# Altium footprint library PowerSO.PcbLib: 3 footprints
Each footprint in its own frame and in the unit in brackets; x right, y up, seen from the top. Pads: shape width x height; smd on the part's side, far side on the other; paste and mask are expansions set on the pad; w line width, h text height; cw(c..) or ccw(c..) is an arc to the next point about the centre after c.
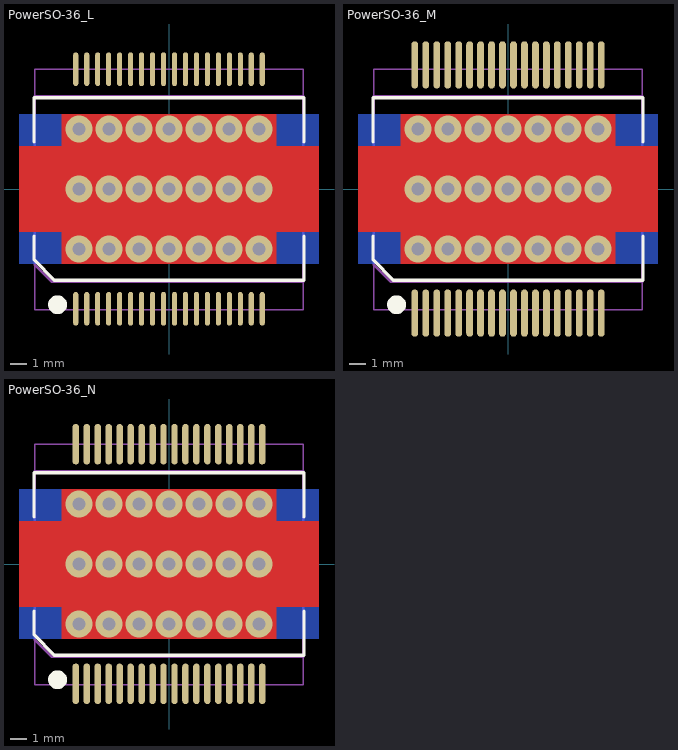
[diagram p0: the footprints below, top view; thin cyan lines are the x and y axes]

## PowerSO-36_L [mm] "15.9mm*11mm*3.6mm(长*宽*高）"
pads (36):
  oval 0.3x2 smd: 1(-5.525,-7.1) 2(-4.875,-7.1) 3(-4.225,-7.1) 4(-3.575,-7.1) 5(-2.925,-7.1) 6(-2.275,-7.1) 7(-1.625,-7.1) 8(-0.975,-7.1) 9(-0.325,-7.1) 10(0.325,-7.1) 11(0.975,-7.1) 12(1.625,-7.1) 13(2.275,-7.1) 14(2.925,-7.1) 15(3.575,-7.1) 16(4.225,-7.1) 17(4.875,-7.1) 18(5.525,-7.1) 19(5.525,7.1) 20(4.875,7.1) 21(4.225,7.1) 22(3.575,7.1) 23(2.925,7.1) 24(2.275,7.1) 25(1.625,7.1) 26(0.975,7.1) 27(0.325,7.1) 28(-0.325,7.1) 29(-0.975,7.1) 30(-1.625,7.1) 31(-2.275,7.1) 32(-2.925,7.1) 33(-3.575,7.1) 34(-4.225,7.1) 35(-4.875,7.1) 36(-5.525,7.1)
via 0,-3.556 diameter 1.6 hole 0.8
via -1.778,-3.556 diameter 1.6 hole 0.8
via -3.556,-3.556 diameter 1.6 hole 0.8
via -5.334,-3.556 diameter 1.6 hole 0.8
via 1.778,-3.556 diameter 1.6 hole 0.8
via 3.556,-3.556 diameter 1.6 hole 0.8
via 5.334,-3.556 diameter 1.6 hole 0.8
via -5.334,3.556 diameter 1.6 hole 0.8
via -3.556,3.556 diameter 1.6 hole 0.8
via -1.778,3.556 diameter 1.6 hole 0.8
via 5.334,3.556 diameter 1.6 hole 0.8
via 3.556,3.556 diameter 1.6 hole 0.8
via 1.778,3.556 diameter 1.6 hole 0.8
via 0,3.556 diameter 1.6 hole 0.8
via 0,0 diameter 1.6 hole 0.8
via 1.778,0 diameter 1.6 hole 0.8
via 3.556,0 diameter 1.6 hole 0.8
via 5.334,0 diameter 1.6 hole 0.8
via -1.778,0 diameter 1.6 hole 0.8
via -3.556,0 diameter 1.6 hole 0.8
via -5.334,0 diameter 1.6 hole 0.8
Top Layer:
  region: -8.89,-2.54 -8.89,2.54 -6.35,2.54 -6.35,4.445 6.35,4.445 6.35,2.54 8.89,2.54 8.89,-2.54 6.35,-2.54 6.35,-4.445 -6.35,-4.445 -6.35,-2.54
Bottom Layer:
  region: -8.89,-4.445 -8.89,4.445 8.89,4.445 8.89,-4.445
Top Overlay:
  circle w0.8: c-6.604,-6.858 r0.155
  lines w0.2: -8,-4.192 -6.792,-5.4 8,-5.4 ; -8,5.4 8,5.4
  lines w0.203: -8.001,-2.794 -8,-2.795 -8,-4.192 ; -8.001,2.794 -8,2.795 -8,5.4 ; 8,-5.4 8,-2.795 ; 8,5.4 8,2.795 8.001,2.794
Top Paste:
  region: 8.636,2.286 6.985,2.286 6.985,1.27 8.636,1.27
  region: 8.636,0.508 6.985,0.508 6.985,-0.508 8.636,-0.508
  region: 8.636,-1.143 6.985,-1.143 6.985,-2.159 8.636,-2.159
  region: -8.636,1.143 -6.985,1.143 -6.985,2.159 -8.636,2.159
  region: -8.636,-0.508 -6.985,-0.508 -6.985,0.508 -8.636,0.508
  region: -8.636,-2.286 -6.985,-2.286 -6.985,-1.27 -8.636,-1.27
  region: 5.207,-2.286 6.477,-2.286 6.477,-1.016 5.207,-1.016
  region: 3.175,-2.286 4.445,-2.286 4.445,-1.016 3.175,-1.016
  region: 1.27,-2.286 2.54,-2.286 2.54,-1.016 1.27,-1.016
  region: -6.477,-2.286 -5.207,-2.286 -5.207,-1.016 -6.477,-1.016
  region: -4.445,-2.286 -3.175,-2.286 -3.175,-1.016 -4.445,-1.016
  region: -2.54,-2.286 -1.27,-2.286 -1.27,-1.016 -2.54,-1.016
  region: -0.635,-2.286 0.635,-2.286 0.635,-1.016 -0.635,-1.016
  region: -5.207,2.286 -6.477,2.286 -6.477,1.016 -5.207,1.016
  region: -3.175,2.286 -4.445,2.286 -4.445,1.016 -3.175,1.016
  region: -1.27,2.286 -2.54,2.286 -2.54,1.016 -1.27,1.016
  region: 6.477,2.286 5.207,2.286 5.207,1.016 6.477,1.016
  region: 4.445,2.286 3.175,2.286 3.175,1.016 4.445,1.016
  region: 2.54,2.286 1.27,2.286 1.27,1.016 2.54,1.016
  region: 0.635,2.286 -0.635,2.286 -0.635,1.016 0.635,1.016
Top Solder:
  region: -8.89,-2.54 -8.89,2.54 -6.35,2.54 -6.35,4.445 6.35,4.445 6.35,2.54 8.89,2.54 8.89,-2.54 6.35,-2.54 6.35,-4.445 -6.35,-4.445 -6.35,-2.54
Bottom Solder:
  region: -8.89,-4.445 -8.89,4.445 8.89,4.445 8.89,-4.445
Mechanical 13:
  lines w0.15: -7.95,-4.496 -7.95,5.5 7.95,5.5 7.95,-5.5 -6.946,-5.5 -7.95,-4.496
Mechanical 15:
  circle w0.05: c0,0 r0.35
  lines w0.05: -0.5,0 0.5,0 ; 0,-0.5 0,0.5
  lines w0.1: -7.95,-7.15 -7.95,7.1 7.95,7.1 7.95,-7.15 -7.95,-7.15
3D body "PowerSO-36.STEP": height 3.84, standoff -0.01, extent -7.95,-7.117 7.95,7.118

## PowerSO-36_M [mm] "15.9mm*11mm*3.6mm(长*宽*高）"
pads (36):
  oval 0.4x2.8 smd: 1(-5.525,-7.354) 2(-4.875,-7.354) 3(-4.225,-7.354) 4(-3.575,-7.354) 5(-2.925,-7.354) 6(-2.275,-7.354) 7(-1.625,-7.354) 8(-0.975,-7.354) 9(-0.325,-7.354) 10(0.325,-7.354) 11(0.975,-7.354) 12(1.625,-7.354) 13(2.275,-7.354) 14(2.925,-7.354) 15(3.575,-7.354) 16(4.225,-7.354) 17(4.875,-7.354) 18(5.525,-7.354) 19(5.525,7.354) 20(4.875,7.354) 21(4.225,7.354) 22(3.575,7.354) 23(2.925,7.354) 24(2.275,7.354) 25(1.625,7.354) 26(0.975,7.354) 27(0.325,7.354) 28(-0.325,7.354) 29(-0.975,7.354) 30(-1.625,7.354) 31(-2.275,7.354) 32(-2.925,7.354) 33(-3.575,7.354) 34(-4.225,7.354) 35(-4.875,7.354) 36(-5.525,7.354)
via 0,-3.556 diameter 1.6 hole 0.8
via -1.778,-3.556 diameter 1.6 hole 0.8
via -3.556,-3.556 diameter 1.6 hole 0.8
via -5.334,-3.556 diameter 1.6 hole 0.8
via 1.778,-3.556 diameter 1.6 hole 0.8
via 3.556,-3.556 diameter 1.6 hole 0.8
via 5.334,-3.556 diameter 1.6 hole 0.8
via -5.334,3.556 diameter 1.6 hole 0.8
via -3.556,3.556 diameter 1.6 hole 0.8
via -1.778,3.556 diameter 1.6 hole 0.8
via 5.334,3.556 diameter 1.6 hole 0.8
via 3.556,3.556 diameter 1.6 hole 0.8
via 1.778,3.556 diameter 1.6 hole 0.8
via 0,3.556 diameter 1.6 hole 0.8
via 0,0 diameter 1.6 hole 0.8
via 1.778,0 diameter 1.6 hole 0.8
via 3.556,0 diameter 1.6 hole 0.8
via 5.334,0 diameter 1.6 hole 0.8
via -1.778,0 diameter 1.6 hole 0.8
via -3.556,0 diameter 1.6 hole 0.8
via -5.334,0 diameter 1.6 hole 0.8
Top Layer:
  region: -8.89,-2.54 -8.89,2.54 -6.35,2.54 -6.35,4.445 6.35,4.445 6.35,2.54 8.89,2.54 8.89,-2.54 6.35,-2.54 6.35,-4.445 -6.35,-4.445 -6.35,-2.54
Bottom Layer:
  region: -8.89,-4.445 -8.89,4.445 8.89,4.445 8.89,-4.445
Top Overlay:
  circle w0.8: c-6.604,-6.858 r0.155
  lines w0.2: -8,-4.192 -6.792,-5.4 8,-5.4 ; -8,5.4 8,5.4
  lines w0.203: -8.001,-2.794 -8,-2.795 -8,-4.192 ; -8.001,2.794 -8,2.795 -8,5.4 ; 8,-5.4 8,-2.795 ; 8,5.4 8,2.795 8.001,2.794
Top Paste:
  region: 8.636,2.286 6.985,2.286 6.985,1.27 8.636,1.27
  region: 8.636,0.508 6.985,0.508 6.985,-0.508 8.636,-0.508
  region: 8.636,-1.143 6.985,-1.143 6.985,-2.159 8.636,-2.159
  region: -8.636,1.143 -6.985,1.143 -6.985,2.159 -8.636,2.159
  region: -8.636,-0.508 -6.985,-0.508 -6.985,0.508 -8.636,0.508
  region: -8.636,-2.286 -6.985,-2.286 -6.985,-1.27 -8.636,-1.27
  region: 5.207,-2.286 6.477,-2.286 6.477,-1.016 5.207,-1.016
  region: 3.175,-2.286 4.445,-2.286 4.445,-1.016 3.175,-1.016
  region: 1.27,-2.286 2.54,-2.286 2.54,-1.016 1.27,-1.016
  region: -6.477,-2.286 -5.207,-2.286 -5.207,-1.016 -6.477,-1.016
  region: -4.445,-2.286 -3.175,-2.286 -3.175,-1.016 -4.445,-1.016
  region: -2.54,-2.286 -1.27,-2.286 -1.27,-1.016 -2.54,-1.016
  region: -0.635,-2.286 0.635,-2.286 0.635,-1.016 -0.635,-1.016
  region: -5.207,2.286 -6.477,2.286 -6.477,1.016 -5.207,1.016
  region: -3.175,2.286 -4.445,2.286 -4.445,1.016 -3.175,1.016
  region: -1.27,2.286 -2.54,2.286 -2.54,1.016 -1.27,1.016
  region: 6.477,2.286 5.207,2.286 5.207,1.016 6.477,1.016
  region: 4.445,2.286 3.175,2.286 3.175,1.016 4.445,1.016
  region: 2.54,2.286 1.27,2.286 1.27,1.016 2.54,1.016
  region: 0.635,2.286 -0.635,2.286 -0.635,1.016 0.635,1.016
Top Solder:
  region: -8.89,-2.54 -8.89,2.54 -6.35,2.54 -6.35,4.445 6.35,4.445 6.35,2.54 8.89,2.54 8.89,-2.54 6.35,-2.54 6.35,-4.445 -6.35,-4.445 -6.35,-2.54
Bottom Solder:
  region: -8.89,-4.445 -8.89,4.445 8.89,4.445 8.89,-4.445
Mechanical 13:
  lines w0.15: -7.95,-4.496 -7.95,5.5 7.95,5.5 7.95,-5.5 -6.946,-5.5 -7.95,-4.496
Mechanical 15:
  circle w0.05: c0,0 r0.35
  lines w0.05: -0.5,0 0.5,0 ; 0,-0.5 0,0.5
  lines w0.1: -7.95,-7.15 -7.95,7.1 7.95,7.1 7.95,-7.15 -7.95,-7.15
3D body "PowerSO-36.STEP": height 3.84, standoff -0.01, extent -7.95,-7.117 7.95,7.118

## PowerSO-36_N [mm] "15.9mm*11mm*3.6mm(长*宽*高）"
pads (36):
  oval 0.38x2.4 smd: 1(-5.525,-7.1) 2(-4.875,-7.1) 3(-4.225,-7.1) 4(-3.575,-7.1) 5(-2.925,-7.1) 6(-2.275,-7.1) 7(-1.625,-7.1) 8(-0.975,-7.1) 9(-0.325,-7.1) 10(0.325,-7.1) 11(0.975,-7.1) 12(1.625,-7.1) 13(2.275,-7.1) 14(2.925,-7.1) 15(3.575,-7.1) 16(4.225,-7.1) 17(4.875,-7.1) 18(5.525,-7.1) 19(5.525,7.1) 20(4.875,7.1) 21(4.225,7.1) 22(3.575,7.1) 23(2.925,7.1) 24(2.275,7.1) 25(1.625,7.1) 26(0.975,7.1) 27(0.325,7.1) 28(-0.325,7.1) 29(-0.975,7.1) 30(-1.625,7.1) 31(-2.275,7.1) 32(-2.925,7.1) 33(-3.575,7.1) 34(-4.225,7.1) 35(-4.875,7.1) 36(-5.525,7.1)
via 0,-3.556 diameter 1.6 hole 0.8
via -1.778,-3.556 diameter 1.6 hole 0.8
via -3.556,-3.556 diameter 1.6 hole 0.8
via -5.334,-3.556 diameter 1.6 hole 0.8
via 1.778,-3.556 diameter 1.6 hole 0.8
via 3.556,-3.556 diameter 1.6 hole 0.8
via 5.334,-3.556 diameter 1.6 hole 0.8
via -5.334,3.556 diameter 1.6 hole 0.8
via -3.556,3.556 diameter 1.6 hole 0.8
via -1.778,3.556 diameter 1.6 hole 0.8
via 5.334,3.556 diameter 1.6 hole 0.8
via 3.556,3.556 diameter 1.6 hole 0.8
via 1.778,3.556 diameter 1.6 hole 0.8
via 0,3.556 diameter 1.6 hole 0.8
via 0,0 diameter 1.6 hole 0.8
via 1.778,0 diameter 1.6 hole 0.8
via 3.556,0 diameter 1.6 hole 0.8
via 5.334,0 diameter 1.6 hole 0.8
via -1.778,0 diameter 1.6 hole 0.8
via -3.556,0 diameter 1.6 hole 0.8
via -5.334,0 diameter 1.6 hole 0.8
Top Layer:
  region: -8.89,-2.54 -8.89,2.54 -6.35,2.54 -6.35,4.445 6.35,4.445 6.35,2.54 8.89,2.54 8.89,-2.54 6.35,-2.54 6.35,-4.445 -6.35,-4.445 -6.35,-2.54
Bottom Layer:
  region: -8.89,-4.445 -8.89,4.445 8.89,4.445 8.89,-4.445
Top Overlay:
  circle w0.8: c-6.604,-6.858 r0.155
  lines w0.2: -8,-4.192 -6.792,-5.4 8,-5.4 ; -8,5.4 8,5.4
  lines w0.203: -8.001,-2.794 -8,-2.795 -8,-4.192 ; -8.001,2.794 -8,2.795 -8,5.4 ; 8,-5.4 8,-2.795 ; 8,5.4 8,2.795 8.001,2.794
Top Paste:
  region: 8.636,2.286 6.985,2.286 6.985,1.27 8.636,1.27
  region: 8.636,0.508 6.985,0.508 6.985,-0.508 8.636,-0.508
  region: 8.636,-1.143 6.985,-1.143 6.985,-2.159 8.636,-2.159
  region: -8.636,1.143 -6.985,1.143 -6.985,2.159 -8.636,2.159
  region: -8.636,-0.508 -6.985,-0.508 -6.985,0.508 -8.636,0.508
  region: -8.636,-2.286 -6.985,-2.286 -6.985,-1.27 -8.636,-1.27
  region: 5.207,-2.286 6.477,-2.286 6.477,-1.016 5.207,-1.016
  region: 3.175,-2.286 4.445,-2.286 4.445,-1.016 3.175,-1.016
  region: 1.27,-2.286 2.54,-2.286 2.54,-1.016 1.27,-1.016
  region: -6.477,-2.286 -5.207,-2.286 -5.207,-1.016 -6.477,-1.016
  region: -4.445,-2.286 -3.175,-2.286 -3.175,-1.016 -4.445,-1.016
  region: -2.54,-2.286 -1.27,-2.286 -1.27,-1.016 -2.54,-1.016
  region: -0.635,-2.286 0.635,-2.286 0.635,-1.016 -0.635,-1.016
  region: -5.207,2.286 -6.477,2.286 -6.477,1.016 -5.207,1.016
  region: -3.175,2.286 -4.445,2.286 -4.445,1.016 -3.175,1.016
  region: -1.27,2.286 -2.54,2.286 -2.54,1.016 -1.27,1.016
  region: 6.477,2.286 5.207,2.286 5.207,1.016 6.477,1.016
  region: 4.445,2.286 3.175,2.286 3.175,1.016 4.445,1.016
  region: 2.54,2.286 1.27,2.286 1.27,1.016 2.54,1.016
  region: 0.635,2.286 -0.635,2.286 -0.635,1.016 0.635,1.016
Top Solder:
  region: -8.89,-2.54 -8.89,2.54 -6.35,2.54 -6.35,4.445 6.35,4.445 6.35,2.54 8.89,2.54 8.89,-2.54 6.35,-2.54 6.35,-4.445 -6.35,-4.445 -6.35,-2.54
Bottom Solder:
  region: -8.89,-4.445 -8.89,4.445 8.89,4.445 8.89,-4.445
Mechanical 13:
  lines w0.15: -7.95,-4.496 -7.95,5.5 7.95,5.5 7.95,-5.5 -6.946,-5.5 -7.95,-4.496
Mechanical 15:
  circle w0.05: c0,0 r0.35
  lines w0.05: -0.5,0 0.5,0 ; 0,-0.5 0,0.5
  lines w0.1: -7.95,-7.15 -7.95,7.1 7.95,7.1 7.95,-7.15 -7.95,-7.15
3D body "PowerSO-36.STEP": height 3.84, standoff -0.01, extent -7.95,-7.117 7.95,7.118